# EAGLE library part NEUTRIK (library jacks)
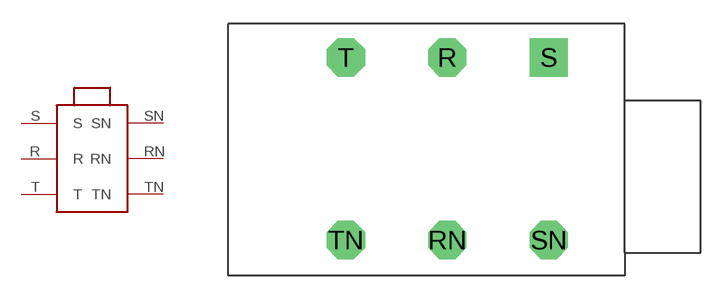
[diagram p0: symbol with the pads of NEUTRIK; footprint NEUTRIK]

Designator prefix -

## NEUTRIKNEUTRIK_STEREO  [NEUTRIK]
R  R
RN  RN
S  S
SN  SN
T  T
TN  TN

## Footprint NEUTRIK (pad centres in mm)
drill 1.6 octagon: R 1,6.04; RN 1,-5.39; SN 7.35,-5.39; T -5.35,6.04; TN -5.35,-5.39
drill 1.6 square: S 7.35,6.04